# Altium footprint library BatteruPSU.PcbLib: 42 footprints (part 1 of 3)
Each footprint in its own frame and in the unit in brackets; x right, y up, seen from the top. Pads: shape width x height; smd on the part's side, far side on the other; paste and mask are expansions set on the pad; w line width, h text height; cw(c..) or ccw(c..) is an arc to the next point about the centre after c.
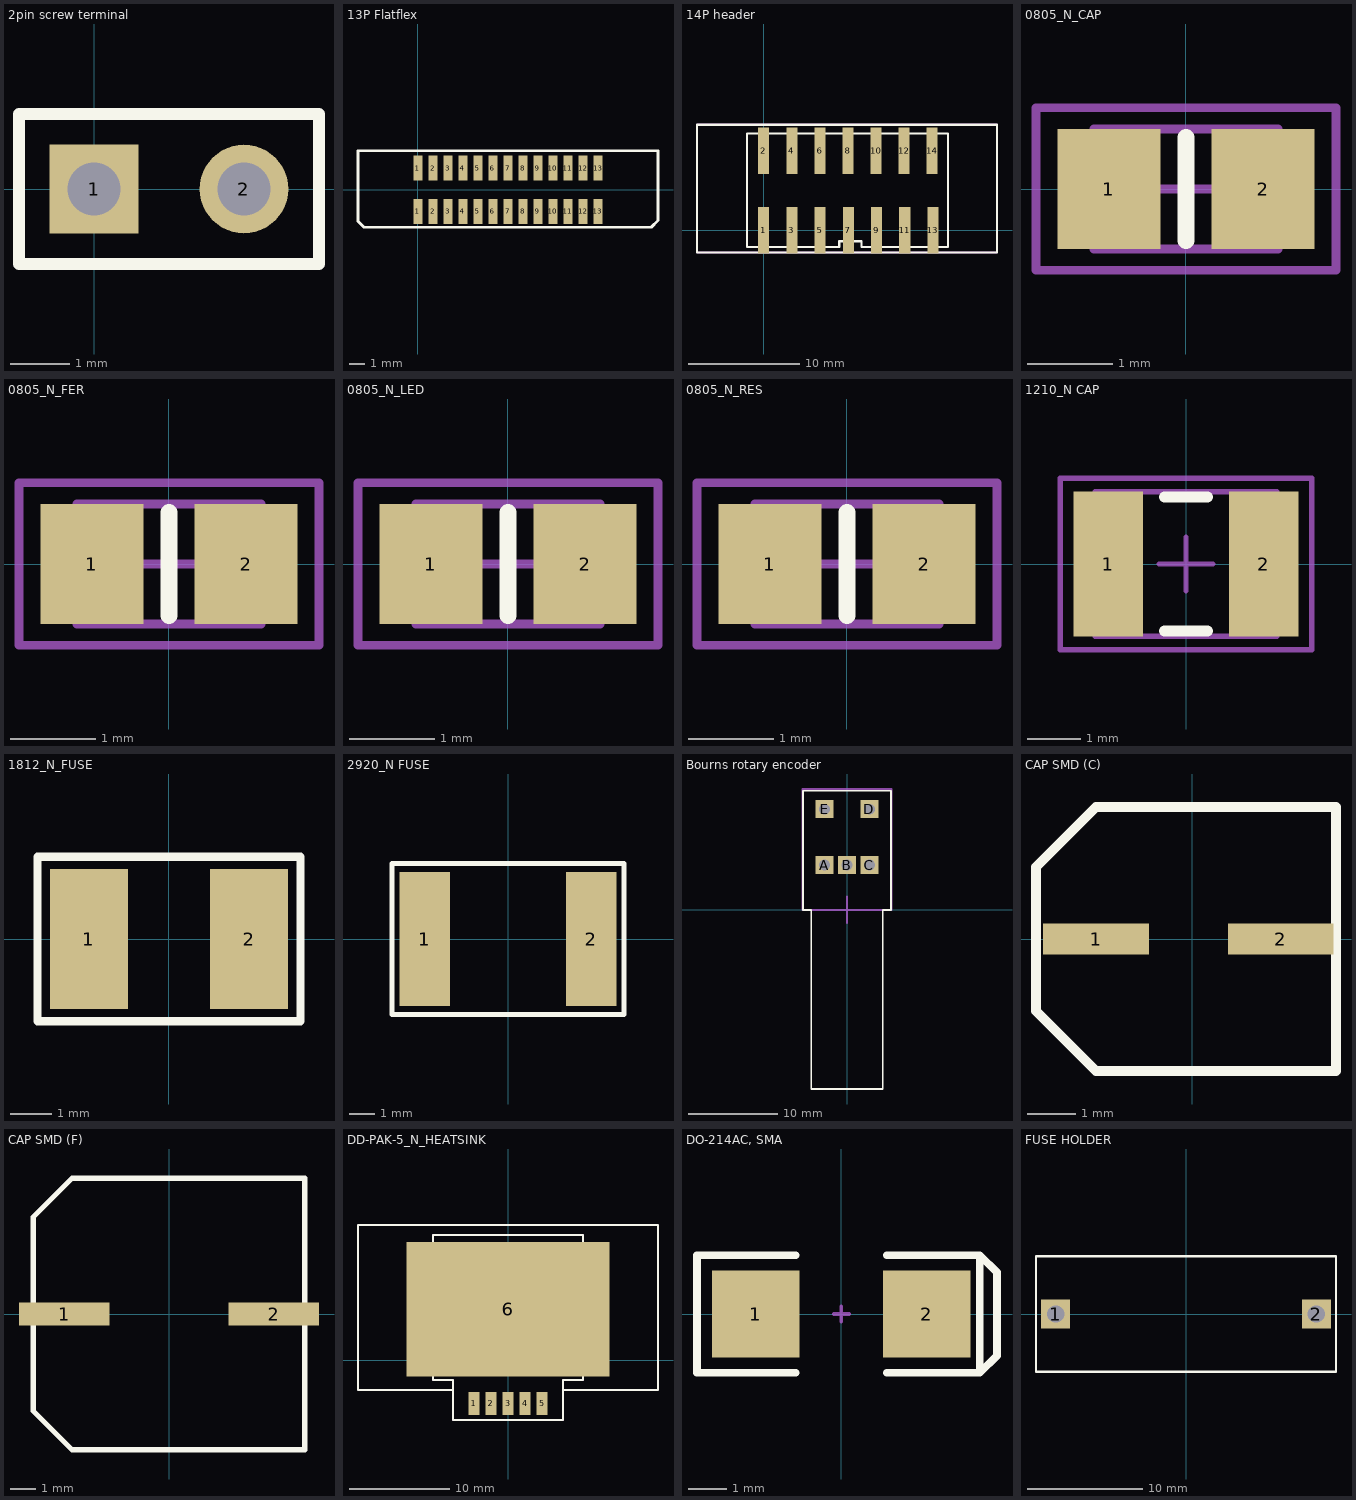
[diagram p0: the footprints below, top view; thin cyan lines are the x and y axes]

## 2pin screw terminal [mm]
pads (2):
  rect 1.5x1.5 hole 0.9: 1(0,0)
  round 1.5 hole 0.9: 2(2.54,0)
Top Overlay:
  lines w0.2: -1.27,-1.27 -1.27,1.27 3.81,1.27 3.81,-1.27 -1.27,-1.27
3D body: height 8.5, standoff -3.5, extent -1.52,-3.5 4.02,3

## 13P Flatflex [mm] "Molex 13p SMD flatflex"
height 8
pads (26):
  rect 0.6x1.65 smd: 1(0,-1.45) 1(0,1.45) 2(1,-1.45) 2(1,1.45) 3(2,-1.45) 3(2,1.45) 4(3,-1.45) 4(3,1.45) 5(4,-1.45) 5(4,1.45) 6(5,-1.45) 6(5,1.45) 7(6,-1.45) 7(6,1.45) 8(7,-1.45) 8(7,1.45) 9(8,-1.45) 9(8,1.45) 10(9,-1.45) 10(9,1.45) 11(10,-1.45) 11(10,1.45) 12(11,-1.45) 12(11,1.45) 13(12,-1.45) 13(12,1.45)
Top Overlay:
  lines w0.2: -4,-2.1 -4,2.6 16,2.6 16,-2.05 15.55,-2.5 -3.6,-2.5 -4,-2.1
3D body: height 5.7, standoff -0.05, extent -3.8,-2.25 15.8,2.25

## 14P header [mm] "14P Dual in line header SMD"
height 10
pads (14):
  rect 1x4.15 smd: 1(0,0) 2(0,7.15) 3(2.54,0) 4(2.54,7.15) 5(5.08,0) 6(5.08,7.15) 7(7.62,0) 8(7.6,7.15) 9(10.16,0) 10(10.12,7.15) 11(12.7,0) 12(12.64,7.15) 13(15.24,0) 14(15.16,7.15)
Top Overlay:
  lines w0.2: -6,-2 -6,9.5 21,9.5 21,-2 -6,-2 ; -1.5,-1.5 6.8,-1.5 6.8,-1 8.8,-1 8.8,-1.5 16.6,-1.5 16.6,8.7 -1.5,8.7 -1.5,-1.5
Mechanical 15:
  lines w0.2: -6,-2 -6,9.5 21,9.5 21,-2 -6,-2
3D body: height 10.6, standoff 0.05, extent -5.3,-1.87 20.5,9.07

## 0805_N_CAP [mm] "Chip Capasitor, Film, Body 2.0x1.25mm"
height 0.9
pads (2):
  rect 1.2x1.4 smd: 1(-0.9,0) 2(0.9,0)
Top Overlay:
  lines w0.2: 0,-0.6 0,0.6
Mechanical 13:
  lines w0.1: -1.075,-0.7 -1.075,0.7 1.075,0.7 1.075,-0.7 -1.075,-0.7
Mechanical 15:
  lines w0.1: -0.5,0 0.5,0 ; 0,-0.5 0,0.5 ; -1.75,-0.95 -1.75,0.95 1.75,0.95 1.75,-0.95 -1.75,-0.95
3D body: height 0.95, standoff 0, extent -1,-0.6 1,0.6

## 0805_N_FER [mm] "Chip Ferrite SMD, Body 2.0x1.25mm"
height 0.9
pads (2):
  rect 1.2x1.4 smd: 1(-0.9,0) 2(0.9,0)
Top Overlay:
  lines w0.2: 0,-0.6 0,0.6
Mechanical 13:
  lines w0.1: -1.075,-0.7 -1.075,0.7 1.075,0.7 1.075,-0.7 -1.075,-0.7
Mechanical 15:
  lines w0.1: -0.5,0 0.5,0 ; 0,-0.5 0,0.5 ; -1.75,-0.95 -1.75,0.95 1.75,0.95 1.75,-0.95 -1.75,-0.95
3D body: height 0.85, standoff -0.05, extent -1,-0.6 1,0.6

## 0805_N_LED [mm] "Chip LED, Body 2.0x1.25mm"
height 0.8
pads (2):
  rect 1.2x1.4 smd: 1(-0.9,0) 2(0.9,0)
Top Overlay:
  lines w0.2: 0,-0.6 0,0.6
Mechanical 13:
  lines w0.1: -1.075,-0.7 1.075,-0.7 1.075,0.7 -1.075,0.7 -1.075,-0.7
Mechanical 15:
  lines w0.1: -0.5,0 0.5,0 ; 0,-0.5 0,0.5 ; -1.75,-0.95 1.75,-0.95 1.75,0.95 -1.75,0.95 -1.75,-0.95
3D body: height 0.8, standoff 0, extent -1,-0.625 1,0.625

## 0805_N_RES [mm] "Chip Resistor, Body 2.0x1.25mm"
height 0.9
pads (2):
  rect 1.2x1.4 smd: 1(-0.9,0) 2(0.9,0)
Top Overlay:
  lines w0.2: 0,-0.6 0,0.6
Mechanical 13:
  lines w0.1: -1.075,-0.7 -1.075,0.7 1.075,0.7 1.075,-0.7 -1.075,-0.7
Mechanical 15:
  lines w0.1: -0.5,0 0.5,0 ; 0,-0.5 0,0.5 ; -1.75,-0.95 -1.75,0.95 1.75,0.95 1.75,-0.95 -1.75,-0.95
3D body: height 0.76, standoff 0, extent -1.15,-0.675 1.15,0.675

## 1210_N CAP [mm] "Chip Capacitor, Body 3.2x2.5mm, IPC Medium Density"
height 1.6
pads (2):
  rect 1.3x2.7 smd: 1(-1.45,0) 2(1.45,0)
Top Overlay:
  lines w0.2: -0.4,-1.25 0.4,-1.25 ; -0.4,1.25 0.4,1.25
Mechanical 13:
  lines w0.1: -1.7,-1.35 -1.7,1.35 1.7,1.35 1.7,-1.35 -1.7,-1.35
Mechanical 15:
  lines w0.1: -0.5,0 0.5,0 ; 0,-0.5 0,0.5 ; -2.35,-1.6 -2.35,1.6 2.35,1.6 2.35,-1.6 -2.35,-1.6
3D body: height 0.95, standoff -0.01, extent -2.128,-1.382 2.072,1.318

## 1812_N_FUSE [mm] "PTC Fuse"
height 1.7
pads (2):
  rect 1.9x3.4 smd: 1(-1.95,0) 2(1.95,0)
Top Overlay:
  lines w0.2: -3.2,-2 -3.2,2 3.2,2 3.2,-2 -3.2,-2
3D body: height 1.03, standoff 0, extent -2.365,-1.74 2.37,1.74

## 2920_N FUSE [mm] "Resetable fuse, SMD"
height 1
pads (2):
  rect 2x5.3 smd: 1(-3.3,0) 2(3.3,0)
Top Overlay:
  lines w0.2: -4.6,-3 -4.6,3 4.6,3 4.6,-3 -4.6,-3
3D body: height 0.8, standoff 0, extent -3.99,-2.72 3.99,2.72

## Bourns rotary encoder [mm] "PEC09 Incremental encoder"
height 11.35
pads (5):
  rect 2x2 hole 1.2: A(-2.5,5) B(0,5) C(2.5,5) D(2.5,11.25) E(-2.5,11.25)
Top Overlay:
  lines w0.2: -4.9,0 -4,0 -4,-20 4,-20 4,0 4.9,0 4.9,13.3 -4.9,13.3 -4.9,0
Mechanical 15:
  lines w0.2: -1.5,0 1.5,0 ; 0,-1.5 0,1.5 ; -5,0 -5,13.5 5,13.5 5,0 -5,0
3D body: height 11.35, standoff -3.5, extent -4.85,-20 4.85,13.3

## CAP SMD (C) [mm] "Panasonic ZA SMD Electrolytic-hybrid cap (size C)"
height 5
pads (2):
  rect 2.2x0.65 smd: 1(-2,0) 2(1.85,0)
Top Overlay:
  lines w0.2: -3.25,-1.5 -3.25,1.5 -2,2.75 0,2.75 3,2.75 3,-2.75 -2,-2.75 -3.25,-1.5
3D body: height 6.1, standoff 0, extent -2.65,-2.8 2.65,2.5

## CAP SMD (F) [mm] "Panasonic ZA SMD Electrolytic-hybrid cap (size C)"
height 5
pads (2):
  rect 3.5x0.9 smd: 1(-4.05,0) 2(4.05,0)
Top Overlay:
  lines w0.2: -5.25,-3.75 -3.75,-5.25 5.25,-5.25 5.25,5.25 -3.75,5.25 -5.25,3.75 -5.25,-3.75
3D body: height 10.5, standoff 0, extent -5.05,-5.15 5.25,5.15

## DD-PAK-5_N_HEATSINK [mil]
height 177.17
pads (6):
  rect 42x90 smd: 1(-134,-170) 2(-67,-170) 3(0,-170) 4(67,-170) 5(134,-170)
  rect 800x530 smd: 6(0,200)
Top Overlay:
  lines w7.87: -216.54,-118.11 -590.55,-118.11 -590.55,531.5 590.55,531.5 590.55,-118.11 216.54,-118.11 ; -295.28,-78.74 -216.54,-78.74 -216.54,-236.22 0,-236.22 216.54,-236.22 216.54,-78.74 295.28,-78.74 295.28,492.13 -295.28,492.13 -295.28,-78.74
  text "." at -137.8,-255.91 h60
Mechanical 15:
  lines w7.87: -295.28,-78.74 -295.28,492.13 295.28,492.13 295.28,-78.74 216.54,-78.74 216.54,-236.22 -216.54,-236.22 -216.54,-78.74 -295.28,-78.74
3D body: height 176.56, standoff 0, extent -201.25,-212.6 201.25,352.4
3D body: height 408.64, standoff 7.19, extent -512,-55.11 520.22,456.7

## DO-214AC, SMA [mm] "DO-214AC/SMA; 2 C-Bend Leads; Body 5.69 x 2.84mm, inc. leads (LxW)"
height 2.95
pads (2):
  rect 2.3x2.3 smd: 1(-2.25,0) 2(2.25,0)
Top Overlay:
  lines w0.2: -1.2,-1.55 -3.8,-1.55 -3.8,1.55 -1.2,1.55 ; 1.2,-1.55 3.65,-1.55 ; 1.2,1.55 3.65,1.55 ; 3.65,-1.55 3.65,1.55 ; 3.65,-1.55 4.1,-1.1 4.1,1.1 3.65,1.55
Mechanical 1:
  lines w0.1: -0.2,0 0.2,0 ; 0,-0.2 0,0.2
3D body: height 2.4, standoff 0, extent -2.6,-1.3 2.6,1.3

## FUSE HOLDER [mm] "Generic fuse holder"
height 10
pads (2):
  rect 2.5x2.5 hole 1.5: 1(-11.3,0) 2(11.3,0)
Top Overlay:
  lines w0.2: -13,-5 -13,5 13,5 13,-5 -13,-5
3D body: height 13.44, standoff -5.4, extent -11.39,-4.5 11.77,4.5